# EAGLE library part 6-520315-0 (library nest_interface)
FFC thru-hole 10 pos 0.100in header.
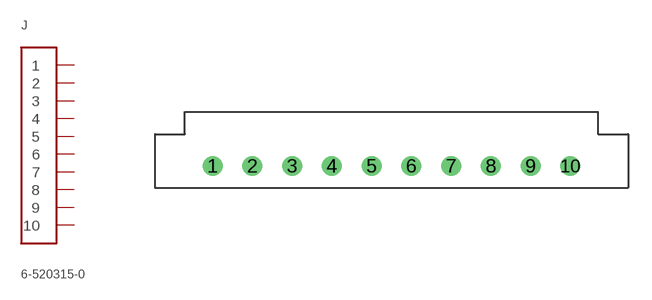
[diagram p8: symbol with the pads of 6-520315-0; footprint 6-520315-0]

Designator prefix J

## 6-520315-0 (DIGIKEY: 6-520315-0-ND)  [6-520315-0]
1  1
2  2
3  3
4  4
5  5
6  6
7  7
8  8
9  9
10  10

## Footprint 6-520315-0 (pad centres in mm)
drill 0.762: 1 -11.43,0; 2 -8.89,0; 3 -6.35,0; 4 -3.81,0; 5 -1.27,0; 6 1.27,0; 7 3.81,0; 8 6.35,0; 9 8.89,0; 10 11.43,0